# EAGLE library part WIRL-CLTI_2615011136000 (library WE_WIRL_Rev13.0)
Adrastea-I - Cellular Module Cat.M and NB-IoT WIRL-CLTI Cellular Module T&R Details see: https://we-online.de/katalog/en/article/2615011136000/
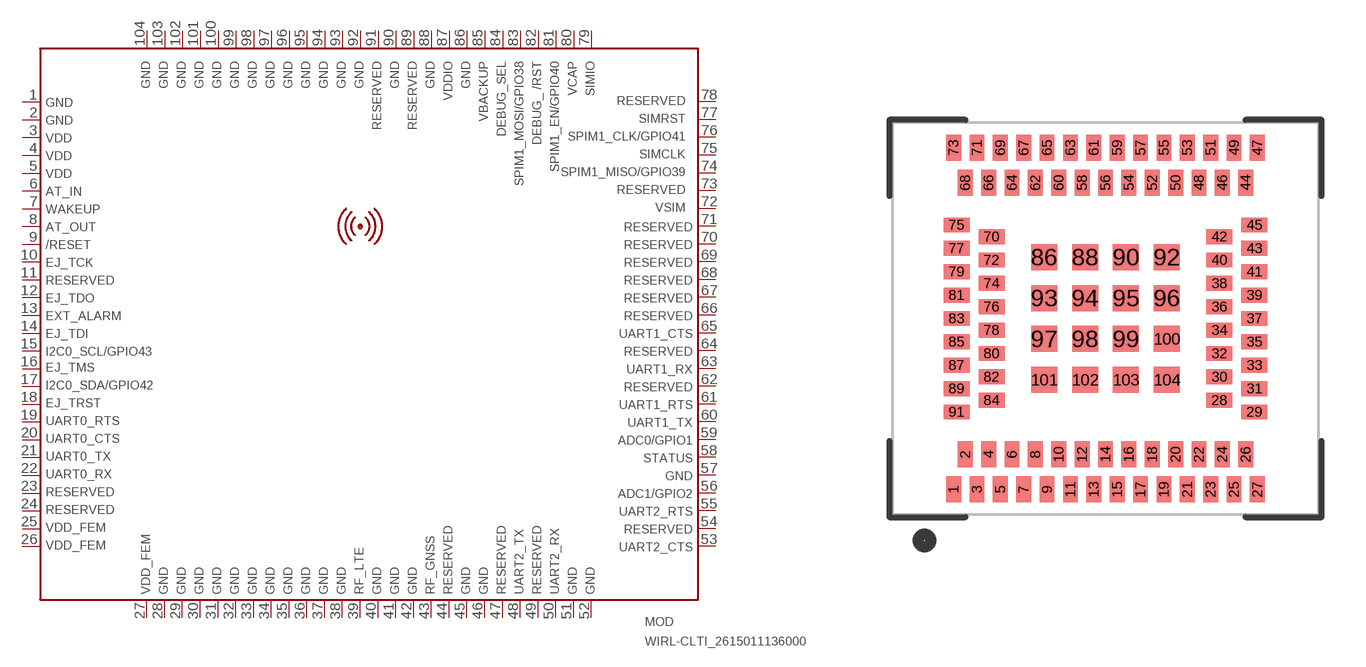
[diagram p38: symbol with the pads of WIRL-CLTI_2615011136000; footprint WIRL-CLTI_2615011136000]

Designator prefix MOD

## WIRL-CLTI_2615011136000 (HEIGHT: 1.85mm; MANUFACTURER: Wuerth Elektronik; NR: 2615011136000)  [WIRL-CLTI_2615011136000]
1  GND  pwr
2  GND  pwr
3  VDD  pwr
4  VDD  pwr
5  VDD  pwr
6  AT_IN
7  WAKEUP
8  AT_OUT
9  /RESET
10  EJ_TCK
11  RESERVED14
12  EJ_TDO
13  EXT_ALARM
14  EJ_TDI
15  I2C0_SCL/GPIO43
16  EJ_TMS
17  I2C0_SDA/GPIO42
18  EJ_TRST
19  UART0_RTS
20  UART0_CTS
21  UART0_TX
22  UART0_RX
23  RESERVED18
24  RESERVED19
25  VDD_FEM  pwr
26  VDD_FEM  pwr
27  VDD_FEM  pwr
28  GND  pwr
29  GND  pwr
30  GND  pwr
31  GND  pwr
32  GND  pwr
33  GND  pwr
34  GND  pwr
35  GND  pwr
36  GND  pwr
37  GND  pwr
38  GND  pwr
39  RF_LTE
40  GND  pwr
41  GND  pwr
42  GND  pwr
43  RF_GNSS
44  RESERVED5
45  GND  pwr
46  GND  pwr
47  RESERVED6
48  UART2_TX
49  RESERVED7
50  UART2_RX
51  GND  pwr
52  GND  pwr
53  UART2_CTS
54  RESERVED15
55  UART2_RTS
56  ADC1/GPIO2
57  GND  pwr
58  STATUS
59  ADC0/GPIO1
60  UART1_TX
61  UART1_RTS
62  RESERVED1
63  UART1_RX
64  RESERVED2
65  UART1_CTS
66  RESERVED8
67  RESERVED3
68  RESERVED9
69  RESERVED4
70  RESERVED16
71  RESERVED10
72  VSIM  pwr
73  RESERVED11
74  SPIM1_MISO/GPIO39
75  SIMCLK
76  SPIM1_CLK/GPIO41
77  SIMRST
78  RESERVED13
79  SIMIO
80  VCAP
81  SPIM1_EN/GPIO40
82  DEBUG_/RST
83  SPIM1_MOSI/GPIO38
84  DEBUG_SEL
85  VBACKUP
86  GND  pwr
87  VDDIO  pwr
88  GND  pwr
89  RESERVED12
90  GND  pwr
91  RESERVED20
92  GND  pwr
93  GND  pwr
94  GND  pwr
95  GND  pwr
96  GND  pwr
97  GND  pwr
98  GND  pwr
99  GND  pwr
100  GND  pwr
101  GND  pwr
102  GND  pwr
103  GND  pwr
104  GND  pwr

## Footprint WIRL-CLTI_2615011136000 (pad centres in mm)
Adrastea-I - Cellular Module Cat.M and NB-IoT WIRL-CLTI Cellular Module T&R Details see: https://we-online.de/katalog/en/article/2615011136000/
smd 0.508 x 0.89: 1 -5.2,-5.85; 2 -4.8,-4.65; 3 -4.4,-5.85; 4 -4,-4.65; 5 -3.6,-5.85; 6 -3.2,-4.65; 7 -2.8,-5.85; 8 -2.4,-4.65; 9 -2,-5.85; 10 -1.6,-4.65; 11 -1.2,-5.85; 12 -0.8,-4.65; 13 -0.4,-5.85; 14 0,-4.65; 15 0.4,-5.85; 16 0.8,-4.65; 17 1.2,-5.85; 18 1.6,-4.65; 19 2,-5.85; 20 2.4,-4.65; 21 2.8,-5.85; 22 3.2,-4.65; 23 3.6,-5.85; 24 4,-4.65; 25 4.4,-5.85; 26 4.8,-4.65; 27 5.2,-5.85; 44 4.8,4.65; 46 4,4.65; 47 5.2,5.85; 48 3.2,4.65; 49 4.4,5.85; 50 2.4,4.65; 51 3.6,5.85; 52 1.6,4.65; 53 2.8,5.85; 54 0.8,4.65; 55 2,5.85; 56 0,4.65; 57 1.2,5.85; 58 -0.8,4.65; 59 0.4,5.85; 60 -1.6,4.65; 61 -0.4,5.85; 62 -2.4,4.65; 63 -1.2,5.85; 64 -3.2,4.65; 65 -2,5.85; 66 -4,4.65; 67 -2.8,5.85; 68 -4.8,4.65; 69 -3.6,5.85; 71 -4.4,5.85; 73 -5.2,5.85
smd 0.89 x 0.508: 28 3.9,-2.8; 29 5.1,-3.2; 30 3.9,-2; 31 5.1,-2.4; 32 3.9,-1.2; 33 5.1,-1.6; 34 3.9,-0.4; 35 5.1,-0.8; 36 3.9,0.4; 37 5.1,0; 38 3.9,1.2; 39 5.1,0.8; 40 3.9,2; 41 5.1,1.6; 42 3.9,2.8; 43 5.1,2.4; 45 5.1,3.2; 70 -3.9,2.8; 72 -3.9,2; 74 -3.9,1.2; 75 -5.1,3.2; 76 -3.9,0.4; 77 -5.1,2.4; 78 -3.9,-0.4; 79 -5.1,1.6; 80 -3.9,-1.2; 81 -5.1,0.8; 82 -3.9,-2; 83 -5.1,0; 84 -3.9,-2.8; 85 -5.1,-0.8; 87 -5.1,-1.6; 89 -5.1,-2.4; 91 -5.1,-3.2
smd 0.89 x 0.89: 86 -2.1,2.1; 88 -0.7,2.1; 90 0.7,2.1; 92 2.1,2.1; 93 -2.1,0.7; 94 -0.7,0.7; 95 0.7,0.7; 96 2.1,0.7; 97 -2.1,-0.7; 98 -0.7,-0.7; 99 0.7,-0.7; 100 2.1,-0.7; 101 -2.1,-2.1; 102 -0.7,-2.1; 103 0.7,-2.1; 104 2.1,-2.1